# EAGLE library part CAP_ARRAY (library ADC)
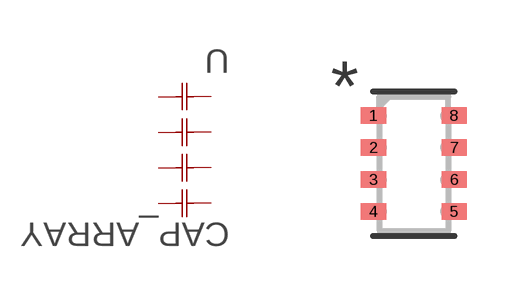
[diagram p4: symbol with the pads of CAP_CA0612_3P2X1P6_YAG; footprint CAP_CA0612_3P2X1P6_YAG]

Designator prefix -

## CAP_ARRAY  [CAP_CA0612_3P2X1P6_YAG]
1  1  pas
2  2  pas
3  3  pas
4  4  pas
5  5  pas
6  6  pas
7  7  pas
8  8  pas

## Footprint CAP_CA0612_3P2X1P6_YAG (pad centres in mm)
smd 0.634 x 0.408: 1 -1.009,1.2; 2 -1.009,0.4; 3 -1.009,-0.4; 4 -1.009,-1.2; 5 1.009,-1.2; 6 1.009,-0.4; 7 1.009,0.4; 8 1.009,1.2